# Altium schematic symbol library SC16IS750IPW.SchLib: 1 symbol
Pins are listed as number, name and electrical type; pins without a type are passive.

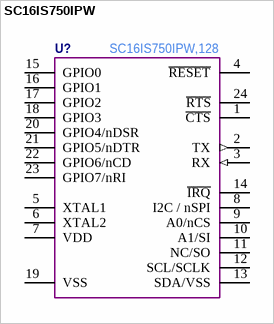
[diagram p0: symbol SC16IS750IPW]

## SC16IS750IPW
designator U?  Manufacturer Part Number: SC16IS750IPW,128  (hidden comment: *)
pins: 1 ~{CTS}, 2 TX (out), 3 RX (in), 4 ~{RESET}, 5 XTAL1, 6 XTAL2, 7 VDD, 8 I2C / nSPI, 9 A0/nCS, 10 A1/SI, 11 NC/SO, 12 SCL/SCLK, 13 SDA/VSS, 14 ~{IRQ}, 15 GPIO0, 16 GPIO1, 17 GPIO2, 18 GPIO3, 19 VSS, 20 GPIO4/nDSR, 21 GPIO5/nDTR, 22 GPIO6/nCD, 23 GPIO7/nRI, 24 ~{RTS}